# Altium footprint library PCB - RESISTOR - CHIP - TE TLRP 2512.PCBLIB: 1 footprints
Each footprint in its own frame and in the unit in brackets; x right, y up, seen from the top. Pads: shape width x height; smd on the part's side, far side on the other; paste and mask are expansions set on the pad; w line width, h text height; cw(c..) or ccw(c..) is an arc to the next point about the centre after c.
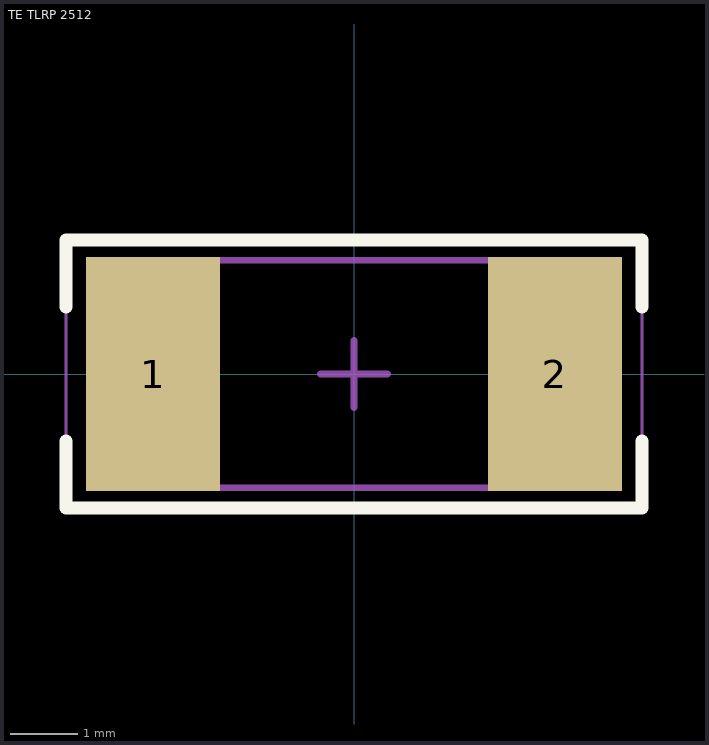
[diagram p0: the footprint, top view; thin cyan lines are the x and y axes]

## TE TLRP 2512 [mm] "Chip Resistor, 2-Leads, Body 6.35x3.18mm, IPC Medium Density"
height 0.7
pads (2):
  rect 2x3.5 smd: 1(-3,0) 2(3,0)
Top Overlay:
  lines w0.2: -4.3,-1 -4.3,-2 4.3,-2 4.3,-1 ; -4.3,1 -4.3,2 4.3,2 4.3,1
Mechanical 13:
  lines w0.1: -3.3,-1.7 3.3,-1.7 3.3,1.7 -3.3,1.7 -3.3,-1.7
Mechanical 15:
  lines w0.05: -4.3,-2 4.3,-2 4.3,2 -4.3,2 -4.3,-2
  lines w0.1: -0.5,0 0.5,0 ; 0,-0.5 0,0.5
3D body "Stackpole CSR2512 Res.STEP": height 0.5, standoff 0, extent -3.275,-1.6 3.275,1.6